# Altium footprint library Samtec.PcbLib: 1 footprints
Each footprint in its own frame and in the unit in brackets; x right, y up, seen from the top. Pads: shape width x height; smd on the part's side, far side on the other; paste and mask are expansions set on the pad; w line width, h text height; cw(c..) or ccw(c..) is an arc to the next point about the centre after c.
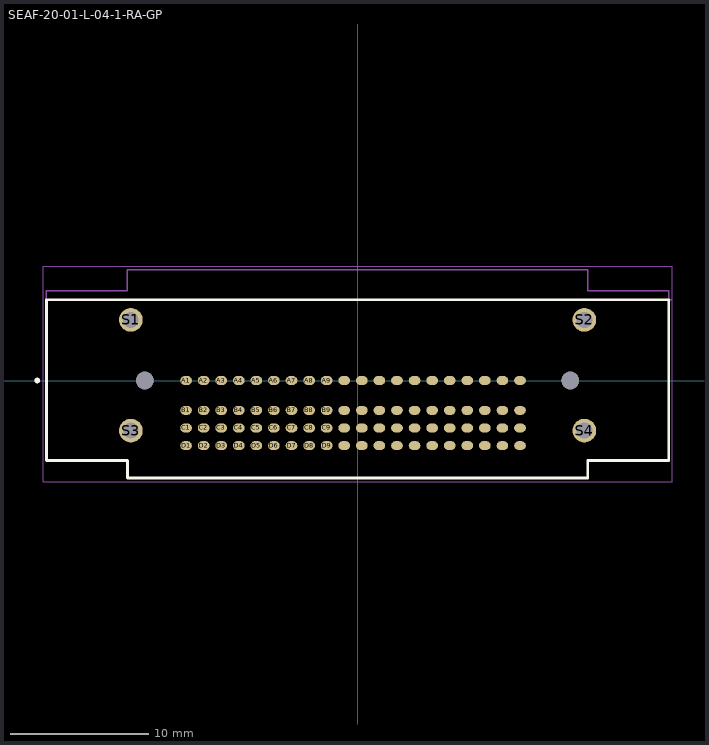
[diagram p0: the footprint, top view; thin cyan lines are the x and y axes]

## SEAF-20-01-L-04-1-RA-GP [mm]
pads (86):
  oval 0.84x0.64 smd paste-1: A1(-12.395,0) A2(-11.125,0) A3(-9.855,0) A4(-8.585,0) A5(-7.315,0) A6(-6.045,0) A7(-4.775,0) A8(-3.505,0) A9(-2.235,0) A10(-0.965,0) A11(0.305,0) A12(1.575,0) A13(2.845,0) A14(4.115,0) A15(5.385,0) A16(6.655,0) A17(7.925,0) A18(9.195,0) A19(10.465,0) A20(11.735,0) B1(-12.395,-2.16) B2(-11.125,-2.16) B3(-9.855,-2.16) B4(-8.585,-2.16) B5(-7.315,-2.16) B6(-6.045,-2.16) B7(-4.775,-2.16) B8(-3.505,-2.16) B9(-2.235,-2.16) B10(-0.965,-2.16) B11(0.305,-2.16) B12(1.575,-2.16) B13(2.845,-2.16) B14(4.115,-2.16) B15(5.385,-2.16) B16(6.655,-2.16) B17(7.925,-2.16) B18(9.195,-2.16) B19(10.465,-2.16) B20(11.735,-2.16) C1(-12.395,-3.43) C2(-11.125,-3.43) C3(-9.855,-3.43) C4(-8.585,-3.43) C5(-7.315,-3.43) C6(-6.045,-3.43) C7(-4.775,-3.43) C8(-3.505,-3.43) C9(-2.235,-3.43) C10(-0.965,-3.43) C11(0.305,-3.43) C12(1.575,-3.43) C13(2.845,-3.43) C14(4.115,-3.43) C15(5.385,-3.43) C16(6.655,-3.43) C17(7.925,-3.43) C18(9.195,-3.43) C19(10.465,-3.43) C20(11.735,-3.43) D1(-12.395,-4.7) D2(-11.125,-4.7) D3(-9.855,-4.7) D4(-8.585,-4.7) D5(-7.315,-4.7) D6(-6.045,-4.7) D7(-4.775,-4.7) D8(-3.505,-4.7) D9(-2.235,-4.7) D10(-0.965,-4.7) D11(0.305,-4.7) D12(1.575,-4.7) D13(2.845,-4.7) D14(4.115,-4.7) D15(5.385,-4.7) D16(6.655,-4.7) D17(7.925,-4.7) D18(9.195,-4.7) D19(10.465,-4.7) D20(11.735,-4.7)
  round 1.71 hole 1.14: S1(-16.385,4.38) S2(16.385,4.38) S3(-16.385,-3.62) S4(16.385,-3.62)
  round 1.27 hole 1.27 unplated: ""(-15.365,0) ""(15.365,0)
Top Overlay:
  circle w0.2: c-23.15,0 r0.1
  lines w0.2: -22.48,-5.78 -22.48,5.84 22.48,5.84 22.48,-5.78 16.635,-5.78 16.635,-7.05 -16.635,-7.05 -16.635,-5.78 -22.48,-5.78
Top Paste:
  drawing of 84 lines, arcs and shapes, not listed
Mechanical 13:
  circle w0.2: c-23.15,0 r0.1
  lines w0.1: 22.73,5.84 -22.48,5.84 ; -22.48,5.84 -22.48,-5.78 -16.635,-5.78 -16.635,-7.05 16.635,-7.05 16.635,-5.78 22.48,-5.78 22.48,6.49 16.635,6.49 16.635,7.99 -16.635,7.99 -16.635,6.49 -22.48,6.49 -22.48,5.84
  text "PCB EDGE" at 22.73,6 h0.61
Mechanical 15:
  lines w0.05: -22.73,-7.3 -22.73,8.24 22.73,8.24 22.73,-7.3 -22.73,-7.3